# Altium footprint library PcbLib2.PcbLib: 35 footprints (part 3 of 3)
Each footprint in its own frame and in the unit in brackets; x right, y up, seen from the top. Pads: shape width x height; smd on the part's side, far side on the other; paste and mask are expansions set on the pad; w line width, h text height; cw(c..) or ccw(c..) is an arc to the next point about the centre after c.
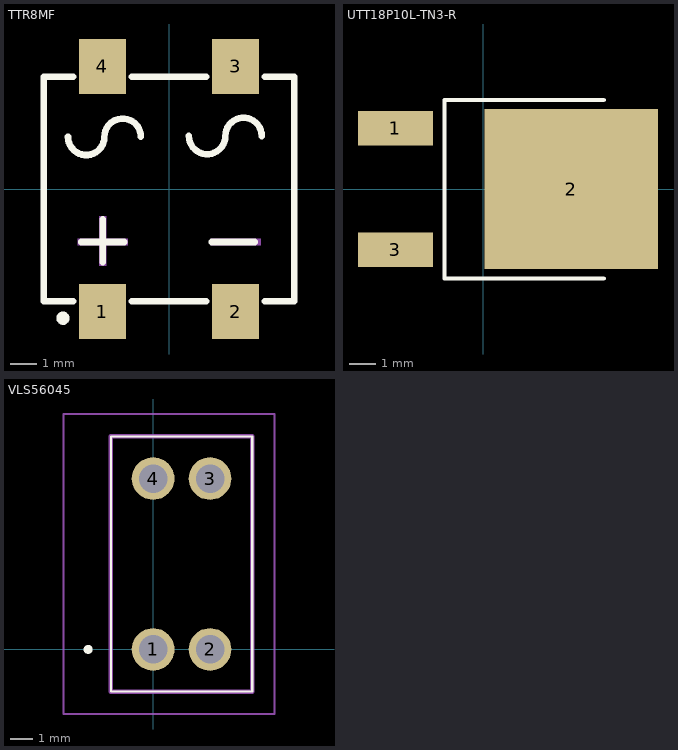
[diagram p2: the footprints below, top view; thin cyan lines are the x and y axes]

## TTR8MF [mm]
pads (4):
  rect 1.8x2.1 smd: 1(-2.55,-4.7) 2(2.55,-4.7) 3(2.55,4.7) 4(-2.55,4.7)
Top Overlay:
  circle w0.254: c-4.064,-4.953 r0.127
  lines w0.254: -3.874,2 ccw(c-3.175,2) -2.477,2 cw(c-1.778,2) -1.08,2 ; -3.681,-4.3 -4.8,-4.3 -4.8,4.3 -3.681,4.3 ; -3.365,-2.032 -1.714,-2.032 ; -2.54,-2.811 -2.54,-1.16 ; -1.419,-4.3 1.419,-4.3 ; -1.419,4.3 1.419,4.3 ; 0.762,2.032 ccw(c1.46,2.032) 2.159,2.032 cw(c2.857,2.032) 3.556,2.032 ; 1.634,-2.032 3.285,-2.032 ; 3.681,-4.3 4.8,-4.3 4.8,4.3 3.681,4.3
Mechanical 15:
  region: -2.67,-2.94 -2.67,-1.04 -2.41,-1.04 -2.41,-2.94
  region: 1.61,-1.9 3.51,-1.9 3.51,-2.16 1.61,-2.16
  region: -3.49,-1.9 -1.59,-1.9 -1.59,-2.16 -3.49,-2.16

## UTT18P10L-TN3-R [mm]
pads (3):
  rect 2.8x1.3 smd: 1(-3.292,2.273) 3(-3.292,-2.273)
  rect 6.5x6 smd: 2(3.292,0)
Top Overlay:
  lines w0.152: 4.511,-3.353 -1.456,-3.353 -1.456,3.34 4.511,3.34
Mechanical 15:
  circle w0.6: c-3.962,2.286 r0.3

## VLS56045 [mm]
pads (4):
  round 1.905 hole 1.27: 1(0,0) 2(2.54,0) 3(2.54,7.62) 4(0,7.62)
Top Overlay:
  lines w0.1: -1.88,-1.88 -1.88,9.5 4.42,9.5 4.42,-1.88 -1.88,-1.88
  lines w0.2: -3,0 cw(c-2.9,0) -2.8,0 cw(c-2.9,0) -3,0
Mechanical 13:
  lines w0.2: -1.88,-1.88 -1.88,9.5 4.42,9.5 4.42,-1.88 -1.88,-1.88
Mechanical 15:
  lines w0.1: -4,-2.88 -4,10.5 5.42,10.5 5.42,-2.88 -4,-2.88
3D body "CM2545X171B-10.stp": height 9.6, standoff -5, extent -1.88,-1.88 4.42,9.5